# Altium footprint library Mechanical.PcbLib: 8 footprints
Each footprint in its own frame and in the unit in brackets; x right, y up, seen from the top. Pads: shape width x height; smd on the part's side, far side on the other; paste and mask are expansions set on the pad; w line width, h text height; cw(c..) or ccw(c..) is an arc to the next point about the centre after c.
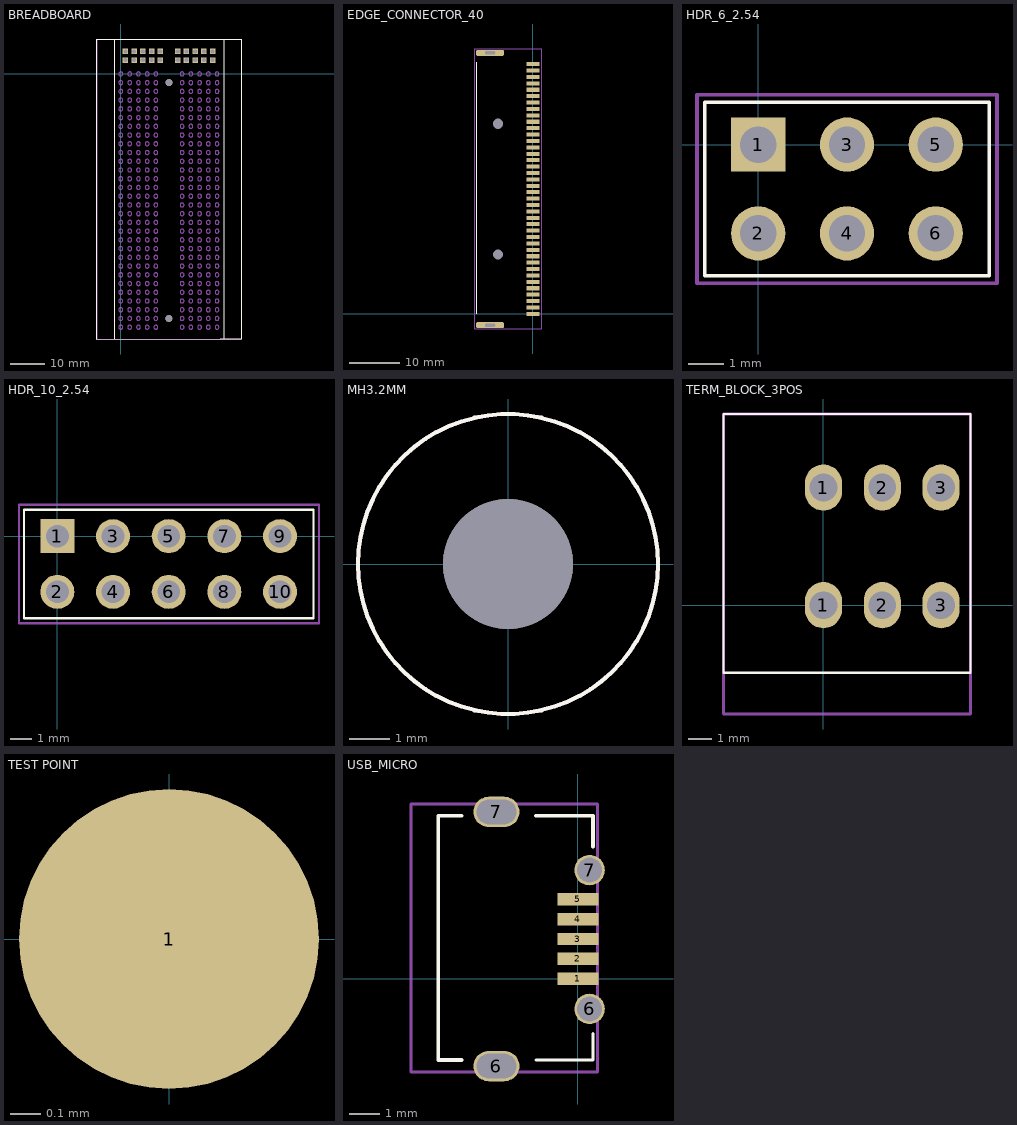
[diagram p0: the footprints below, top view; thin cyan lines are the x and y axes]

## BREADBOARD [mm]
pads (22):
  rect 1.6x1.6 hole 1.2: 1(1.321,6.54) 1(3.861,6.54) 1(6.401,6.54) 1(8.941,6.54) 1(11.481,6.54) 2(1.321,4) 2(3.861,4) 2(6.401,4) 2(8.941,4) 2(11.481,4) 3(16.561,6.54) 3(19.101,6.54) 3(21.641,6.54) 3(24.181,6.54) 3(26.721,6.54) 4(16.561,4) 4(19.101,4) 4(21.641,4) 4(24.181,4) 4(26.721,4)
  round 2 hole 2 unplated: ""(13.97,-71.12) ""(14.021,-2.54)
Top Overlay:
  lines w0.178: -1.949,-76.99 -1.949,10.16 ; 30.051,-77.09 30.051,10.16 ; -1.949,10.16 -3.457,10.16 -5.457,10.16 -6.985,10.16 -6.985,-77.09 28.907,-77.09 35.052,-77.09 35.052,10.16 30.051,10.16 ; -1.949,10.16 30.051,10.16
Assembly:
  drawing of 304 lines, arcs and shapes, not listed
  text "'.Designator'" at 12.7,-36.195 h3
3D body "20210728_extended slots (30) v2.step": height 8.31, standoff 0.01, extent -7.079,-77.19 34.921,9.98

## EDGE_CONNECTOR_40 [mm]
pads (44):
  rect 2.5x0.8 smd: 1(0,0) 2(0,1.27) 3(0,2.54) 4(0,3.81) 5(0,5.08) 6(0,6.35) 7(0,7.62) 8(0,8.89) 9(0,10.16) 10(0,11.43) 11(0,12.7) 12(0,13.97) 13(0,15.24) 14(0,16.51) 15(0,17.78) 16(0,19.05) 17(0,20.32) 18(0,21.59) 19(0,22.86) 20(0,24.13) 21(0,25.4) 22(0,26.67) 23(0,27.94) 24(0,29.21) 25(0,30.48) 26(0,31.75) 27(0,33.02) 28(0,34.29) 29(0,35.56) 30(0,36.83) 31(0,38.1) 32(0,39.37) 33(0,40.64) 34(0,41.91) 35(0,43.18) 36(0,44.45) 37(0,45.72) 38(0,46.99) 39(0,48.26) 40(0,49.53)
  rrect50% 5.5x1.2 hole 0.6 slot 2 at 0 deg: ""(-8.51,-2.235) ""(-8.51,51.765)
  round 1.6 hole 2 unplated: ""(-6.9,11.8) ""(-6.9,37.7)
Top Overlay:
  lines w0.178: -11.1,0 -11.1,49.9
Assembly:
  lines w0.178: -11.5,-3 1.6,-3 1.6,52.6 -11.5,52.6 -11.5,-3
  text "'.Designator'" at -6.9,24.4 h1

## HDR_6_2.54 [mm]
pads (6):
  rect 1.55x1.55 hole 1.04: 1(0,0)
  round 1.55 hole 1.04: 2(0,-2.54) 3(2.54,0) 4(2.54,-2.54) 5(5.08,0) 6(5.08,-2.54)
Top Overlay:
  lines w0.102: -1.525,-3.745 -1.525,1.205 6.605,1.205 6.605,-3.745 -1.525,-3.745
Assembly:
  lines w0.102: -1.75,-3.97 6.83,-3.97 6.83,1.43 -1.75,1.43 -1.75,-3.97
  text ".Designator'" at 1.524,-1.397 h1.02
3D body "SSW-103-01-X-D.step": height 8.51, standoff -2.64, extent -1.524,-3.746 6.604,1.207

## HDR_10_2.54 [mm]
pads (10):
  rect 1.55x1.55 hole 1.04: 1(0,0)
  round 1.55 hole 1.04: 2(0,-2.54) 3(2.54,0) 4(2.54,-2.54) 5(5.08,0) 6(5.08,-2.54) 7(7.62,0) 8(7.62,-2.54) 9(10.16,0) 10(10.16,-2.54)
Top Overlay:
  lines w0.102: -1.525,-3.745 11.684,-3.745 11.684,1.205 -1.525,1.205 -1.525,-3.745
Assembly:
  lines w0.102: -1.75,-3.97 11.938,-3.97 11.938,1.43 -1.75,1.43 -1.75,-3.97
  text ".Designator'" at 3.302,-1.524 h1.02
3D body "SSW-105-01-F-D.stp": height 8.52, standoff -2.63, extent -1.524,-3.746 11.684,1.206

## MH3.2MM [mm] "MHNP 3.2mm"
pads (1):
  round 3.2 hole 3.2 unplated: ""(0,0)
Top Overlay:
  circle w0.102: c0,0 r3.7
Assembly:
  circle w0.102: c0,0 r3.7

## TERM_BLOCK_3POS [mm]
pads (6):
  oval 1.6x2 hole 1.2: 1(0,0) 1(0,5.08) 2(2.54,0) 2(2.54,5.08) 3(5.08,0) 3(5.08,5.08)
Top Overlay:
  lines w0.102: -4.318,-2.921 -4.318,8.255 6.35,8.255 6.35,-2.921 -4.318,-2.921
Assembly:
  lines w0.127: -4.318,-4.699 -4.318,8.255 6.35,8.255 6.35,-4.699 -4.318,-4.699
  text "'.Designator'" at -2.794,-1.016 h3
3D body "c-1-2834015-3-1-3d.stp": height 13.6, standoff -4.87, extent -4.27,-4.622 6.35,8.178

## TEST POINT [mm]
pads (1):
  round 1 smd mask+0.02: 1(0,0)

## USB_MICRO [mm]
pads (9):
  rect 1.35x0.4 smd mask+0.102: 1(0,0) 2(0,0.65) 3(0,1.3) 4(0,1.95) 5(0,2.6)
  oval 1.5x1 hole 0.8 slot 1.3 at 0 deg: 6(-2.667,-2.861) 7(-2.667,5.461)
  round 1 hole 0.8: 6(0.381,-0.991) 7(0.381,3.556)
Top Overlay:
  lines w0.102: -1.379,-2.667 0.492,-2.667 0.492,-1.794
  lines w0.127: -3.81,-2.667 -4.572,-2.667 -4.572,-0.381 -4.572,2.921 -4.572,5.334 -3.81,5.334 ; -1.379,5.334 0.492,5.334 0.492,4.334
Assembly:
  lines w0.102: -5.461,-3.048 0.635,-3.048 0.635,5.715 -5.461,5.715 -5.461,-3.048
  text ".Designator'" at -3.556,1.143 h1.02
3D body "475901001.stp": height 2.74, standoff -0.61, extent -5.37,-3.009 0.53,5.641